# Altium schematic symbol library extraComponents.SchLib: 10 symbols
Pins are listed as number, name and electrical type; pins without a type are passive.

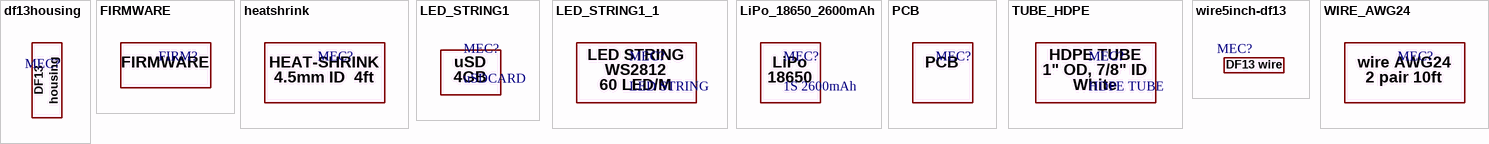
[diagram p0: symbols df13housing to WIRE_AWG24]

## df13housing
designator MEC?  (mechanical)
DF13 housing 5pos; Manufacturer: Hirose Electric Co Ltd; Manufacturer Part Number: H4BXG-10105-W6; Supplier 1: Digi-Key; Supplier Part Number 1: H2182-ND
text: housing; DF13

## FIRMWARE
designator FIRM?  (value not drawn)  (mechanical)
FIRMWARE

## heatshrink
designator MEC?  (mechanical)
HEAT-SHRINK 3/16" ID Before, 3/32" ID After, 4' Length; Supplier 1: McMaster; Supplier Part Number 1: 7856K14; HelpURL: http://www.mcmaster.com/#7856k14
text: HEAT-SHRINK; 4.5mm ID  4ft

## LED_STRING1
designator MEC?, comment uSDCARD  (mechanical)
Sandisk 4GB microSDHC Card Class 2; Supplier 1: Amazon; Supplier Part Number 1: B002T8GP8M; HelpURL: http://www.amazon.com/Sandisk-microSDHC-SDSDQ-004G-Package-microSD/dp/B002T8GP8M/
text: uSD; 4GB

## LED_STRING1_1
designator MEC?, comment LED STRING  (mechanical)
LED Strip WS2812B 60 LEDs/meter; Supplier 1: Amazon; Supplier Part Number 1: B00LUAKB62; HelpURL: http://www.amazon.com/gp/product/B00LUAKB62
text: WS2812; 60 LED/M

## LiPo_18650_2600mAh
designator MEC?, comment 1S 2600mAh  (mechanical)
Tenergy Li-Ion 18650 3.7V 2600mAh; Manufacturer Part Number: 30011; Supplier 1: Amazon; Supplier Part Number 1: B003U7SUUM; Manufacturer: Tenergy; Operating Temperature: -55°C ~ 155°C; HelpURL: http://www.amazon.com/gp/product/B003U7SUUM
text: LiPo; 18650

## PCB
designator MEC?  (value not drawn)  (mechanical)
PCB

## TUBE_HDPE
designator MEC?, comment HDPE TUBE  (mechanical)
HDPE TUBE 1" OD, 7/8" ID White 10 ft; Supplier 1: McMaster; Supplier Part Number 1: 50375K58; HelpURL: http://www.mcmaster.com/#50375k58/
text: 1" OD, 7/8" ID; White

## wire5inch-df13
designator MEC?  (mechanical)
DF13 pre-crimped 5" wire; Manufacturer: Hirose Electric Co Ltd; Manufacturer Part Number: H4BXG-10105-W6; Supplier 1: Digi-Key; Supplier Part Number 1: H4BXG-10105-W6-ND
text: DF13 wire

## WIRE_AWG24
designator MEC?, comment WIRE AWG24  (value not drawn)  (mechanical)
WIRE AWG24 2 conductors; Supplier 1: McMaster; Supplier Part Number 1: 9697T1; HelpURL: http://www.mcmaster.com/#9697t1/
text: wire AWG24; 2 pair 10ft